# Altium footprint library Con Card.PcbLib: 1 footprints
Each footprint in its own frame and in the unit in brackets; x right, y up, seen from the top. Pads: shape width x height; smd on the part's side, far side on the other; paste and mask are expansions set on the pad; w line width, h text height; cw(c..) or ccw(c..) is an arc to the next point about the centre after c.
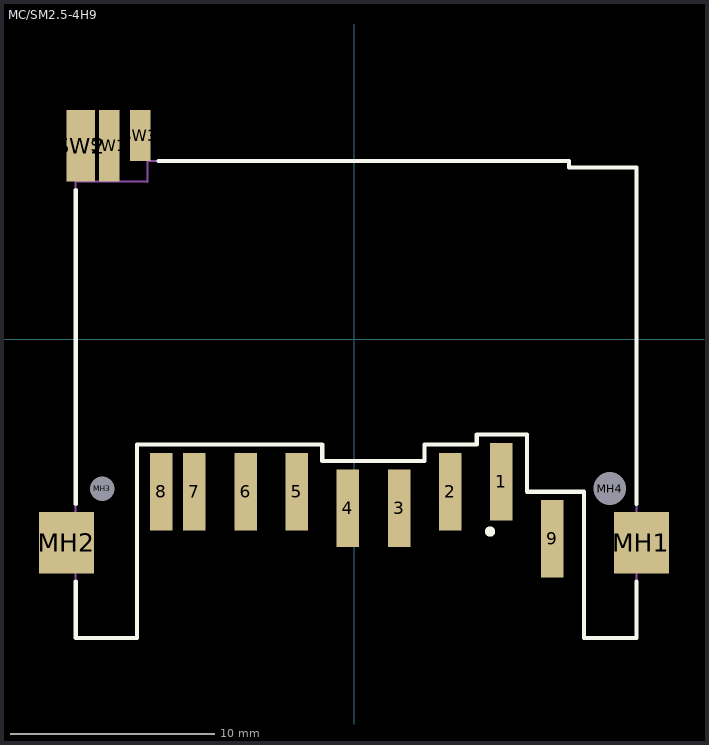
[diagram p0: the footprint, top view; thin cyan lines are the x and y axes]

## MC/SM2.5-4H9 [mm] "Connector; SD Card Type A, SM, 9 Position, Right Angle, Pitch 2.5 mm, Body 23.3 x 27.4 x 3.4 mm (LxWxH)"
height 3.4
pads (16):
  rect 1.1x3.79 smd: 1(7.2,-6.955) 2(4.7,-7.455) 3(2.2,-8.255) 4(-0.3,-8.255) 5(-2.8,-7.455) 6(-5.3,-7.455) 7(-7.8,-7.455) 8(-9.425,-7.455) 9(9.7,-9.755)
  rect 2.7x3 smd: MH1(14.05,-9.95) MH2(-14.05,-9.95)
  round 0.9 hole 1.2 unplated: MH3(-12.3,-7.3)
  round 1.3 hole 1.6 unplated: MH4(12.5,-7.3)
  rect 1x3.5 smd: SW1(-11.95,9.45)
  rect 1.4x3.5 smd: SW2(-13.35,9.45)
  rect 1x2.5 smd: SW3(-10.45,9.95)
Top Overlay:
  circle w0.25: c6.65,-9.4 r0.125
  lines w0.2: -13.6,-11.85 -13.6,-14.6 -10.6,-14.6 -10.6,-5.155 -1.55,-5.155 -1.55,-5.955 3.45,-5.955 3.45,-5.155 6,-5.155 6,-4.655 8.45,-4.655 8.45,-7.455 11.25,-7.455 11.25,-14.6 13.8,-14.6 13.8,-11.85 ; -13.6,-8.05 -13.6,7.3 ; -9.55,8.7 10.5,8.7 10.5,8.4 13.8,8.4 13.8,-8.05
Mechanical 13:
  lines w0.1: -10.1,7.695 -10.1,8.695 ; -10.1,7.7 -13.6,7.7 -13.6,-14.6 -10.6,-14.6 -10.6,-5.155 -1.55,-5.155 -1.55,-5.955 3.45,-5.955 3.45,-5.155 6,-5.155 6,-4.655 8.45,-4.655 8.45,-7.455 11.25,-7.455 11.25,-14.6 13.8,-14.6 13.8,8.4 10.5,8.4 10.5,8.7 -10.1,8.7